# EAGLE library part CON-8P-3_81-PLUG (library SamacSys_Parts)
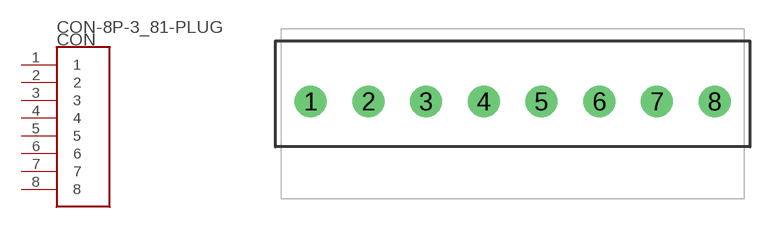
[diagram p10: symbol with the pads of CON-8P-3_81-PLUG; footprint CON-8P-3_81-PLUG]

Designator prefix CON

## CON-8P-3_81-PLUG  [CON-8P-3_81-PLUG]
1  1
2  2
3  3
4  4
5  5
6  6
7  7
8  8

## Footprint CON-8P-3_81-PLUG (pad centres in mm)
drill 1.4: 1 -13.335,0; 2 -9.525,0; 3 -5.715,0; 4 -1.905,0; 5 1.905,0; 6 5.715,0; 7 9.525,0; 8 13.335,0